# Altium schematic symbol library J15MM.Schlib: 1 symbol
Pins are listed as number, name and electrical type; pins without a type are passive.

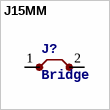
[diagram p0: symbol J15MM]

## J15MM
designator J?, comment Bridge
footprint 15
pins: 1, 2